# Altium integrated library REALTEK.IntLib: 2 symbols
Pins are listed as number, name and electrical type; pins without a type are passive.

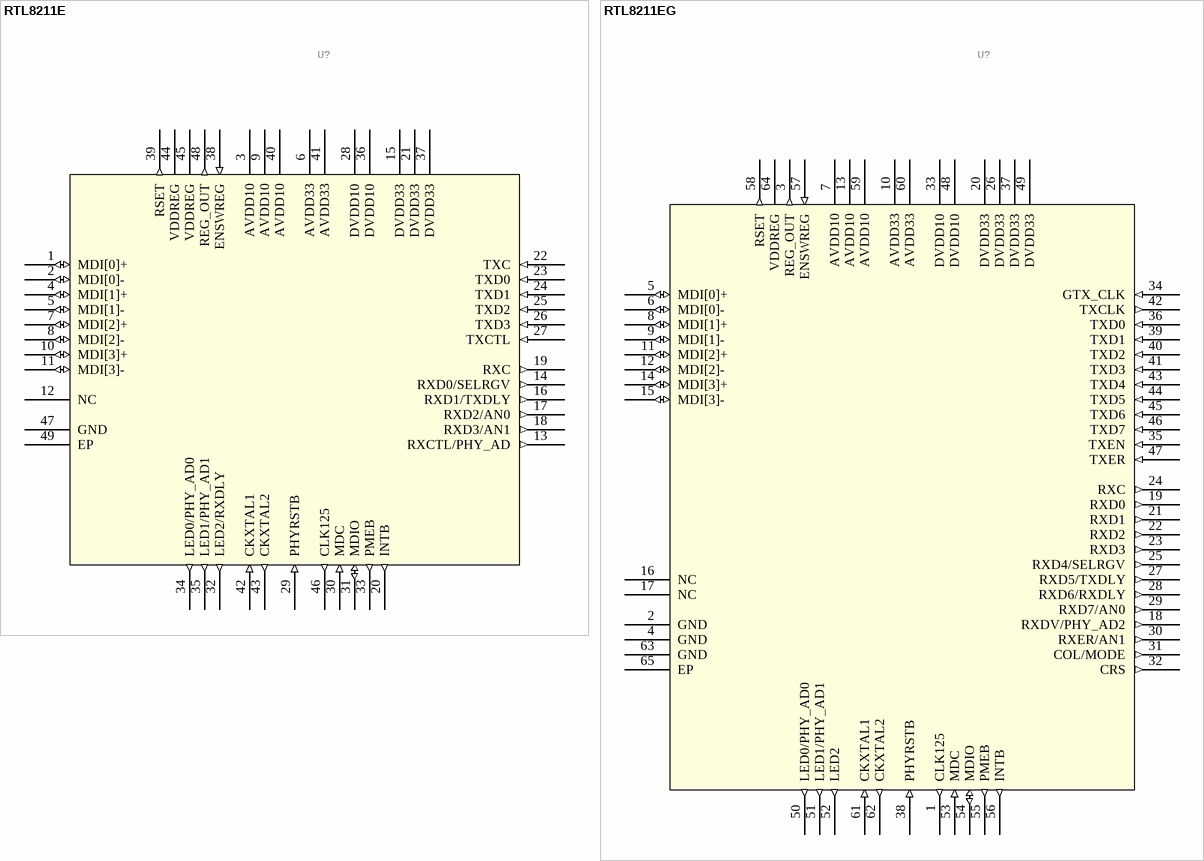
[diagram p0: symbols RTL8211E to RTL8211EG]

## RTL8211E
designator U?
INTEGRATED 10/100/1000M ETHERNET TRANSCEIVER; Manufacturer_Name: Realtek; GateName_1: G$1; SymbolName_1: RTL8211E-VB-CG; LibraryName: RTL8211E-VB-CG; DeviceSetName: RTL8211E-VB-CG; Package: QFN48; Manufacturer_Part_Number: RTL8211E-VB-CG; Height: 1mm
footprint QFN48 (PQFN, 48-Leads, Body 6.00x6.00mm, Pitch 0.40mm, Thermal Pad 4.40x4.40mm, IPC High Density)
pins: 1 MDI[0]+ (io), 2 MDI[0]- (io), 3 AVDD10 (power), 4 MDI[1]+ (io), 5 MDI[1]- (io), 6 AVDD33 (power), 7 MDI[2]+ (io), 8 MDI[2]- (io), 9 AVDD10 (power), 10 MDI[3]+ (io), 11 MDI[3]- (io), 12 NC, 13 RXCTL/PHY_AD (out), 14 RXD0/SELRGV (out), 15 DVDD33 (power), 16 RXD1/TXDLY (out), 17 RXD2/AN0 (out), 18 RXD3/AN1 (out), 19 RXC (out), 20 INTB (out), 21 DVDD33 (power), 22 TXC (in), 23 TXD0 (in), 24 TXD1 (in), 25 TXD2 (in), 26 TXD3 (in), 27 TXCTL (in), 28 DVDD10 (power), 29 PHYRSTB (in), 30 MDC (in), 31 MDIO (io), 32 LED2/RXDLY (out), 33 PMEB (out), 34 LED0/PHY_AD0 (out), 35 LED1/PHY_AD1 (out), 36 DVDD10 (power), 37 DVDD33 (power), 38 ENSWREG (in), 39 RSET (out), 40 AVDD10 (power), 41 AVDD33 (power), 42 CKXTAL1 (in), 43 CKXTAL2 (out), 44 VDDREG (power), 45 VDDREG (power), 46 CLK125 (out), 47 GND, 48 REG_OUT (out), 49 EP

## RTL8211EG
designator U?
INTEGRATED 10/100/1000M ETHERNET TRANSCEIVER; Manufacturer_Name: Realtek; GateName_1: G$1; SymbolName_1: RTL8211EG-VB-CG; LibraryName: RTL8211EG-VB-CG; DeviceSetName: RTL8211EG-VB-CG; Package: QFN64; Manufacturer_Part_Number: RTL8211EG-VB-CG; Height: 1mm
footprint QFN64 (QFN, 64-Leads, Body 9.00x9.00mm, Pitch 0.50mm, Thermal Pad 3.80x3.80mm, IPC High Density)
pins: 1 CLK125 (out), 2 GND, 3 REG_OUT (out), 4 GND, 5 MDI[0]+ (io), 6 MDI[0]- (io), 7 AVDD10 (power), 8 MDI[1]+ (io), 9 MDI[1]- (io), 10 AVDD33 (power), 11 MDI[2]+ (io), 12 MDI[2]- (io), 13 AVDD10 (power), 14 MDI[3]+ (io), 15 MDI[3]- (io), 16 NC, 17 NC, 18 RXDV/PHY_AD2 (out), 19 RXD0 (out), 20 DVDD33 (power), 21 RXD1 (out), 22 RXD2 (out), 23 RXD3 (out), 24 RXC (out), 25 RXD4/SELRGV (out), 26 DVDD33 (power), 27 RXD5/TXDLY (out), 28 RXD6/RXDLY (out), 29 RXD7/AN0 (out), 30 RXER/AN1 (out), 31 COL/MODE (out), 32 CRS (out), 33 DVDD10 (power), 34 GTX_CLK (in), 35 TXEN (in), 36 TXD0 (in), 37 DVDD33 (power), 38 PHYRSTB (in), 39 TXD1 (in), 40 TXD2 (in), 41 TXD3 (in), 42 TXCLK (out), 43 TXD4 (in), 44 TXD5 (in), 45 TXD6 (in), 46 TXD7 (in), 47 TXER (in), 48 DVDD10 (power), 49 DVDD33 (power), 50 LED0/PHY_AD0 (out), 51 LED1/PHY_AD1 (out), 52 LED2 (out), 53 MDC (in), 54 MDIO (io), 55 PMEB (out), 56 INTB (out), 57 ENSWREG (in), 58 RSET (out), 59 AVDD10 (power), 60 AVDD33 (power), 61 CKXTAL1 (in), 62 CKXTAL2 (out), 63 GND, 64 VDDREG (power), 65 EP